# EAGLE library part A2GSRAM-44PIN (library con-apple2)
Apple IIgs Memory Expansion Slot 44-pin This is the 44-pin board dimensions for an Apple IIgs Memory Expansion Card Pins are laid out as seen from the top of the slot. Pin 1 is towards the front of the case/keyboard
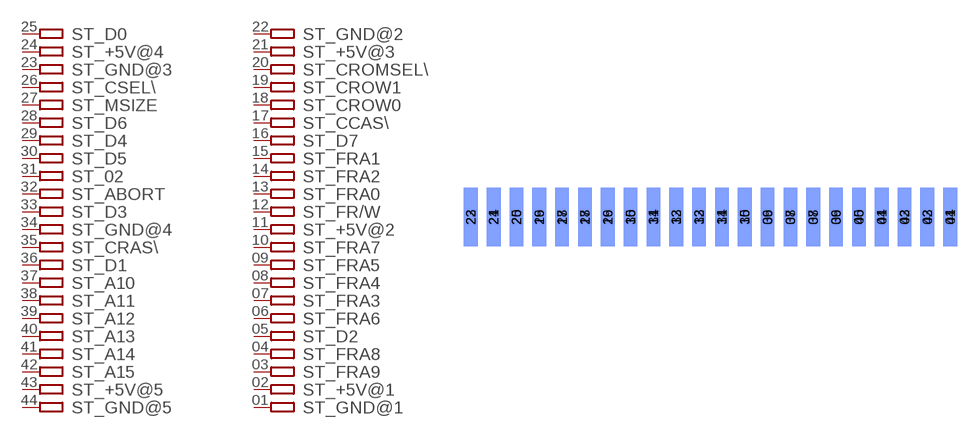
[diagram p1: symbol with the pads of A2GS-44PIN-MEM; footprint A2GS-44PIN-MEM]

Designator prefix ST; gates _GND@5=ATPIN _+5V@5=ATPIN _A15=ATPIN _A14=ATPIN _A13=ATPIN _A12=ATPIN _A11=ATPIN _A10=ATPIN _D1=ATPIN _CRAS\=ATPIN _GND@4=ATPIN _D3=ATPIN _ABORT=ATPIN _02=ATPIN _D5=ATPIN _D4=ATPIN _D6=ATPIN _MSIZE=ATPIN _CSEL\=ATPIN _GND@3=ATPIN _+5V@4=ATPIN _D0=ATPIN _GND@1=ATPIN _+5V@1=ATPIN _FRA9=ATPIN _FRA8=ATPIN _D2=ATPIN _FRA6=ATPIN _FRA3=ATPIN _FRA4=ATPIN _FRA5=ATPIN _FRA7=ATPIN _+5V@2=ATPIN _FR/W=ATPIN _FRA0=ATPIN _FRA2=ATPIN _FRA1=ATPIN _D7=ATPIN _CCAS\=ATPIN _CROW0=ATPIN _CROW1=ATPIN _CROMSEL\=ATPIN _+5V@3=ATPIN _GND@2=ATPIN

## A2GSRAM-44PINIIGS-RAM  [A2GS-44PIN-MEM]
01  _GND@1:P
02  _+5V@1:P
03  _FRA9:P
04  _FRA8:P
05  _D2:P
06  _FRA6:P
07  _FRA3:P
08  _FRA4:P
09  _FRA5:P
10  _FRA7:P
11  _+5V@2:P
12  _FR/W:P
13  _FRA0:P
14  _FRA2:P
15  _FRA1:P
16  _D7:P
17  _CCAS\:P
18  _CROW0:P
19  _CROW1:P
20  _CROMSEL\:P
21  _+5V@3:P
22  _GND@2:P
23  _GND@3:P
24  _+5V@4:P
25  _D0:P
26  _CSEL\:P
27  _MSIZE:P
28  _D6:P
29  _D4:P
30  _D5:P
31  _02:P
32  _ABORT:P
33  _D3:P
34  _GND@4:P
35  _CRAS\:P
36  _D1:P
37  _A10:P
38  _A11:P
39  _A12:P
40  _A13:P
41  _A14:P
42  _A15:P
43  _+5V@5:P
44  _GND@5:P

## Footprint A2GS-44PIN-MEM (pad centres in mm)
Apple IIgs Memory Expansion Card The maximum PCB dimensions for an Apple IIgs Memory Expansion Card Dimensions taken from Tech Note #28
smd 1.524 x 6.477 bottom: 01 -197.485,4.445; 02 -200.025,4.445; 03 -202.565,4.445; 04 -205.105,4.445; 05 -207.645,4.445; 06 -210.185,4.445; 07 -212.725,4.445; 08 -215.265,4.445; 09 -217.805,4.445; 10 -220.345,4.445; 11 -222.885,4.445; 12 -225.425,4.445; 13 -227.965,4.445; 14 -230.505,4.445; 15 -233.045,4.445; 16 -235.585,4.445; 17 -238.125,4.445; 18 -240.665,4.445; 19 -243.205,4.445; 20 -245.745,4.445; 21 -248.285,4.445; 22 -250.825,4.445
smd 1.524 x 6.477: 23 -250.825,4.445; 24 -248.285,4.445; 25 -245.745,4.445; 26 -243.205,4.445; 27 -240.665,4.445; 28 -238.125,4.445; 29 -235.585,4.445; 30 -233.045,4.445; 31 -230.505,4.445; 32 -227.965,4.445; 33 -225.425,4.445; 34 -222.885,4.445; 35 -220.345,4.445; 36 -217.805,4.445; 37 -215.265,4.445; 38 -212.725,4.445; 39 -210.185,4.445; 40 -207.645,4.445; 41 -205.105,4.445; 42 -202.565,4.445; 43 -200.025,4.445; 44 -197.485,4.445